# Altium schematic symbol library 5055670671.SchLib: 2 symbols
Pins are listed as number, name and electrical type; pins without a type are passive.

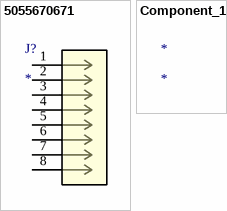
[diagram p0: symbols 5055670671 to Component_1]

## 5055670671
designator J?
No Description Available; Mfr_Name: Molex Connector Corporation; RefDes: RefDes; Type: Type
footprint CON_5055670671
pins: 1, 2, 3, 4, 5, 6, 7, 8

## Component_1
designator *